# Altium schematic symbol library VCU 2.0.SCHLIB: 28 symbols
Pins are listed as number, name and electrical type; pins without a type are passive.

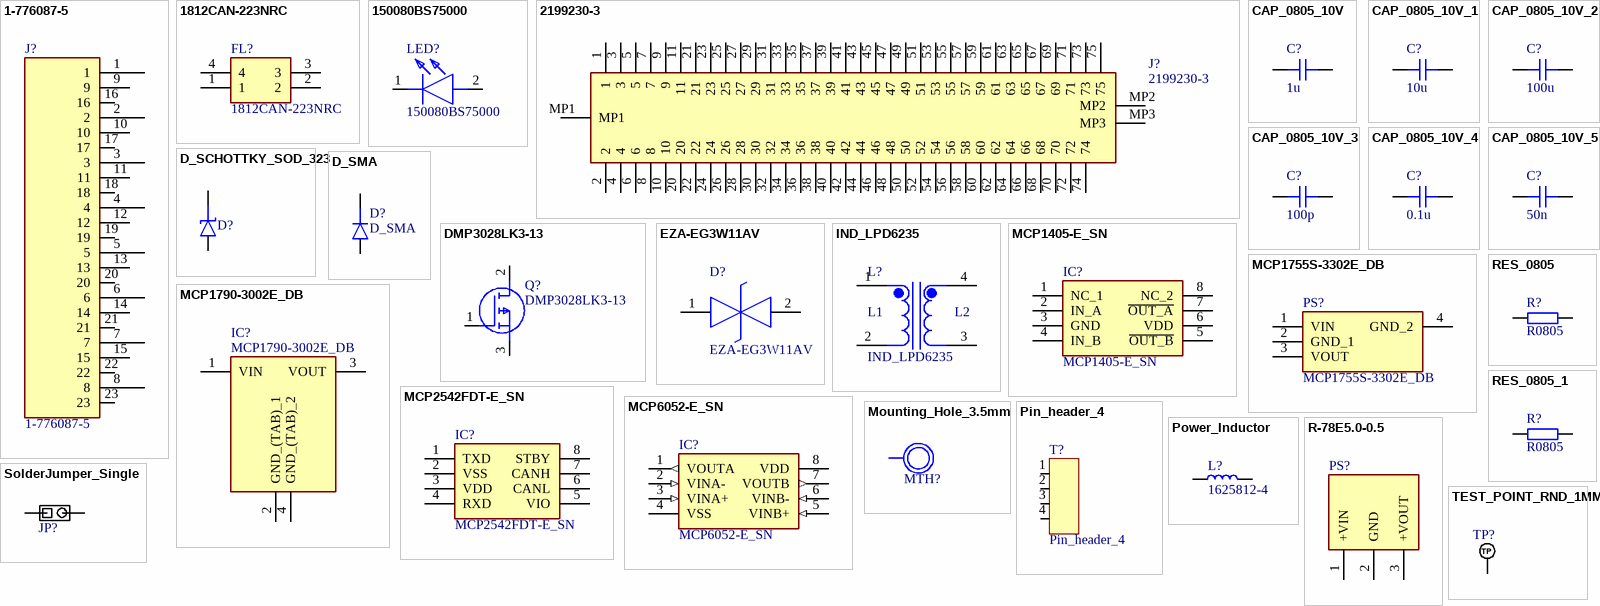
[diagram p0: symbols 1-776087-5 to TEST_POINT_RND_1MM]

## 1-776087-5
designator J?
CONN HDR 23POS R/A W/GASKET AU
footprint 1-776087-5 (CONN HDR 23POS R/A W/GASKET AU)
pins: 1, 2, 3, 4, 5, 6, 7, 8, 9, 10, 11, 12, 13, 14, 15, 16, 17, 18, 19, 20, 21, 22, 23

## 1812CAN-223NRC
designator FL?
Filter; Manufacturer_Name: COILCRAFT; Datasheet Link: https://www.coilcraft.com/getmedia/07970769-ca48-411d-9c96-6ae867bbb31e/1812can.pdf; Height: 3mm; Manufacturer_Part_Number: 1812CAN-223NRC; Mouser Part Number: 994-1812CAN-223NRC; Mouser Price/Stock: https://www.mouser.co.uk/ProductDetail/Coilcraft/1812CAN-223NRC?qs=wnTfsH77Xs58ULcmqHaGYA%3D%3D
footprint 1812CAN223NRC
pins: 1, 2, 3, 4

## 150080BS75000
designator LED?
LED; Manufacturer_Name: Wurth Elektronik; Datasheet Link: https://katalog.we-online.com/led/datasheet/150080BS75000.pdf; Height: 0.8mm; Manufacturer_Part_Number: 150080BS75000; Mouser Part Number: 710-150080BS75000; Mouser Price/Stock: https://www.mouser.co.uk/ProductDetail/Wurth-Elektronik/150080BS75000?qs=2kOmHSv6VfT2tBo3UPVqAQ%3D%3D
footprint LEDC2012X80N
pins: 1 K, 2 A

## 2199230-3
designator J?
Connector; Manufacturer_Name: TE Connectivity; Datasheet Link: https://componentsearchengine.com/Datasheets/2/2199230-3.pdf; Height: 4.2mm; Manufacturer_Part_Number: 2199230-3; Mouser Part Number: 571-2199230-3; Mouser Price/Stock: https://www.mouser.co.uk/ProductDetail/TE-Connectivity/2199230-3?qs=EQCnRgr4b6HElQOKr5ma1Q%3D%3D; Arrow Part Number: 2199230-3; Arrow Price/Stock: https://www.arrow.com/en/products/2199230-3/te-connectivity?region=nac
footprint 21992303
footprint 21992303
pins: 1, 2, 3, 4, 5, 6, 7, 8, 9, 10, 11, 20, 21, 22, 23, 24, 25, 26, 27, 28, 29, 30, 31, 32, 33, 34, 35, 36, 37, 38, 39, 40, 41, 42, 43, 44, 45, 46, 47, 48, 49, 50, 51, 52, 53, 54, 55, 56, 57, 58, 59, 60, 61, 62, 63, 64, 65, 66, 67, 68, 69, 70, 71, 72, 73, 74, 75, MP1, MP2, MP3

## CAP_0805_10V
designator C?, comment 1u
Capacitor SMD 0805 10V
footprint CAP_0805
pins: 1, 2

## CAP_0805_10V_1
designator C?, comment 10u
Capacitor SMD 0805 10V
footprint CAP_0805
pins: 1, 2

## CAP_0805_10V_2
designator C?, comment 100u
Capacitor SMD 0805 10V
footprint CAP_0805
pins: 1, 2

## CAP_0805_10V_3
designator C?, comment 100p
Capacitor SMD 0805 10V
footprint CAP_0805
pins: 1, 2

## CAP_0805_10V_4
designator C?, comment 0.1u
Capacitor SMD 0805 10V
footprint CAP_0805
pins: 1, 2

## CAP_0805_10V_5
designator C?, comment 50n
Capacitor SMD 0805 10V
footprint CAP_0805
pins: 1, 2

## D_SCHOTTKY_SOD_323
designator D?  (value not drawn)
Diode Schottky SMD SOD-323
footprint SOD-323
pins: A, K

## D_SMA
designator D?
Diode SMD SMA (DO-214AA)
footprint DO-214AC-2 (SMA)
pins: A, K

## DMP3028LK3-13
designator Q?
MOSFET (P-Channel); Manufacturer_Name: Diodes Inc.; Datasheet Link: https://componentsearchengine.com/Datasheets/1/DMP3028LK3-13.pdf; Height: 2.39mm; Manufacturer_Part_Number: DMP3028LK3-13; Mouser Part Number: 621-DMP3028LK3-13; Mouser Price/Stock: https://www.mouser.co.uk/ProductDetail/Diodes-Incorporated/DMP3028LK3-13?qs=OVC8WVYZliSFpRP3sPErZQ%3D%3D; Arrow Part Number: DMP3028LK3-13; Arrow Price/Stock: https://www.arrow.com/en/products/dmp3028lk3-13/diodes-incorporated
footprint DMP3028LK313
pins: 1 G, 2 D, 3 S

## EZA-EG3W11AV
designator D?
Diode ESD (Bi-directional); Manufacturer_Name: Panasonic; Datasheet Link: https://industrial.panasonic.com/cdbs/www-data/pdf/AWD0000/AWD0000C26.pdf; Height: 0.5mm; Manufacturer_Part_Number: EZA-EG3W11AV; Mouser Part Number: 667-EZA-EG3W11AV; Mouser Price/Stock: https://www.mouser.co.uk/ProductDetail/Panasonic/EZA-EG3W11AV?qs=0lSvoLzn4L%252BhlS%252B2lqbWqw%3D%3D; Arrow Part Number: EZA-EG3W11AV; Arrow Price/Stock: https://www.arrow.com/en/products/eza-eg3w11av/panasonic; Simulation Data: https://industrial.panasonic.com/content/data/CC/files/EZAEG3W11AV.zip
footprint EZAEG3W11AV
pins: 1 K1, 2 K2

## IND_LPD6235
designator L?
footprint IND_LPD6235
pins: 1, 2, 3, 4
text: L1; L2

## MCP1405-E_SN
designator IC?
Integrated Circuit; Manufacturer_Name: Microchip; Manufacturer_Part_Number: MCP1405-E/SN; Datasheet Link: https://datasheet.datasheetarchive.com/originals/distributors/SFDatasheet-4/sf-00090019.pdf; Height: 1.75mm; Mouser Part Number: 579-MCP1405-E/SN; Mouser Price/Stock: https://www.mouser.co.uk/ProductDetail/Microchip-Technology/MCP1405-E-SN?qs=usxtMOJb1Rz6iJkGGONxgg%3D%3D; Arrow Part Number: MCP1405-E/SN; Arrow Price/Stock: https://www.arrow.com/en/products/mcp1405-esn/microchip-technology
footprint SOIC127P600X175-8N
pins: 1 NC_1, 2 IN_A, 3 GND, 4 IN_B, 5 ~{OUT_B}, 6 VDD, 7 ~{OUT_A}, 8 NC_2

## MCP1755S-3302E_DB
designator PS?
Power Supply; Manufacturer_Name: Microchip; Manufacturer_Part_Number: MCP1755S-3302E/DB; Datasheet Link: http://www.farnell.com/datasheets/1697992.pdf; Height: 1.8mm; Mouser Part Number: 579-MCP1755S-3302EDB; Mouser Price/Stock: https://www.mouser.co.uk/ProductDetail/Microchip-Technology/MCP1755S-3302E-DB?qs=OCR3PNzn1cc7Hxpx9CIZgA%3D%3D; Arrow Part Number: MCP1755S-3302E/DB; Arrow Price/Stock: https://www.arrow.com/en/products/mcp1755s-3302edb/microchip-technology?region=nac
footprint SOT230P700X180-4N
pins: 1 VIN, 2 GND_1, 3 VOUT, 4 GND_2

## MCP1790-3002E_DB
designator IC?
Integrated Circuit; Manufacturer_Name: Microchip; Manufacturer_Part_Number: MCP1790-3002E/DB; Datasheet Link: http://ww1.microchip.com/downloads/en/DeviceDoc/22075b.pdf; Height: 1.8mm; Mouser Part Number: 579-MCP1790-3002E/DB; Mouser Price/Stock: https://www.mouser.co.uk/ProductDetail/Microchip-Technology/MCP1790-3002E-DB?qs=gsqZ4L1luKroJ%252BBibcYbpw%3D%3D; Arrow Part Number: MCP1790-3002E/DB; Arrow Price/Stock: https://www.arrow.com/en/products/mcp1790-3002edb/microchip-technology?region=nac
footprint SOT230P700X180-4N
pins: 1 VIN, 2 GND_(TAB)_1, 3 VOUT, 4 GND_(TAB)_2

## MCP2542FDT-E_SN
designator IC?
Integrated Circuit; Manufacturer_Name: Microchip; Manufacturer_Part_Number: MCP2542FDT-E/SN; Datasheet Link: https://ww1.microchip.com/downloads/en/DeviceDoc/MCP2542FD-MCP2542WFD-4WFD-Data-Sheet-DS20005514C.pdf; Height: 1.75mm; Mouser Part Number: 579-MCP2542FDT-E/SN; Mouser Price/Stock: https://www.mouser.co.uk/ProductDetail/Microchip-Technology-Atmel/MCP2542FDT-E-SN?qs=qdgZG5p0FZ7dgTYBMrlrQQ%3D%3D; Arrow Part Number: MCP2542FDT-E/SN; Arrow Price/Stock: https://www.arrow.com/en/products/mcp2542fdt-esn/microchip-technology?region=nac
footprint SOIC127P600X175-8N (SOIC, 8-Leads, Body 4.91x3.90mm, Pitch 1.27mm, IPC Medium Density)
pins: 1 TXD, 2 VSS, 3 VDD, 4 RXD, 5 VIO, 6 CANL, 7 CANH, 8 STBY

## MCP6052-E_SN
designator IC?
Integrated Circuit; Manufacturer_Name: Microchip; Manufacturer_Part_Number: MCP6052-E/SN; Datasheet Link: http://ww1.microchip.com/downloads/en/DeviceDoc/MCP6051_DS22182B.pdf; Height: 1.75mm; Mouser Part Number: 579-MCP6052-E/SN; Mouser Price/Stock: https://www.mouser.com/Search/Refine.aspx?Keyword=579-MCP6052-E%2FSN
footprint SOIC127P600X175-8N
pins: 1 VOUTA (out), 2 VINA- (in), 3 VINA+ (in), 4 VSS (power), 5 VINB+ (in), 6 VINB- (in), 7 VOUTB (out), 8 VDD (power)

## Mounting_Hole_3.5mm
designator MTH?  (value not drawn)
footprint Mounting_Hole_3.5mm
pins: 1

## Pin_header_4
designator T?
footprint Pin_header_4
pins: 1 (io), 2 (io), 3 (io), 4 (io)

## Power_Inductor
designator L?, comment 1625812-4
TE 1625812-4
footprint Power_Inductor
footprint IND_AISC-1812H-331K-T
footprint Power_Inductor
footprint 147873-2 smd button
pins: 1, 2

## R-78E5.0-0.5
designator PS?  (value not drawn)
Power Supply; Manufacturer_Name: RECOM Power; Datasheet Link: https://datasheet.datasheetarchive.com/originals/distributors/Datasheets_SAMA/1560217c2d38d5ce10907af13420fc49.pdf; Height: 10.9mm; Manufacturer_Part_Number: R-78E5.0-0.5; Mouser Part Number: 919-R-78E5.0-0.5; Mouser Price/Stock: https://www.mouser.co.uk/ProductDetail/RECOM-Power/R-78E5.0-0.5?qs=JeAkOuORR2UvBuiB2kZVZQ%3D%3D; Arrow Part Number: R-78E5.0-0.5; Arrow Price/Stock: https://www.arrow.com/en/products/r-78e5.0-0.5/recom-power?region=europe
footprint R78E5005
pins: 1 +VIN, 2 GND, 3 +VOUT

## RES_0805
designator R?, comment R0805
Resistor SMD 0805; Manufacturer: *; Manufacturer Part Number: *; Distributor Link: *; LCSC: *
footprint RES_0805
pins: 1, 2

## RES_0805_1
designator R?, comment R0805
Resistor SMD 0805
footprint RES_0805
pins: 1, 2

## SolderJumper_Single
designator JP?, comment Solder Jumper  (value not drawn)
Solder Jumper Single 0.5mm Pitch
footprint SolderJumper_Single
pins: 1, 2

## TEST_POINT_RND_1MM
designator TP?, comment TP_NOBOM  (value not drawn)  (no BOM)
Test Point Round 1mm (NO BOM)
footprint PAD_RND_1MM
pins: 1 TP